# EAGLE library part LM2904 (library led_matrix_master_lib)
IC OPAMP GP 700KHZ 8VSSOP
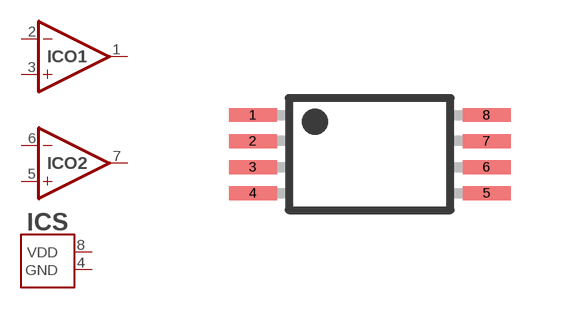
[diagram p4: symbol with the pads of TSSOP8; footprint TSSOP8]

Designator prefix IC; gates O1=OP-AMP O2=OP-AMP S=SUP_PINS

## LM2904 (DIGIKEY#: 296-17931-1-ND; LINK: http://www.chipdip.ru/product/lm2904dgkr-sop8/; MANF: Texas Instruments; MANF#: LM2904DGKR)  [TSSOP8]
1  O1:OUT  out
2  O1:-IN  in
3  O1:+IN  in
4  S:GND
5  O2:+IN  in
6  O2:-IN  in
7  O2:OUT  out
8  S:VDD

## Footprint TSSOP8 (pad centres in mm)
Plastic Small Outline
smd 1.2 x 0.35: 1 -2.925,0.975; 2 -2.925,0.325; 3 -2.925,-0.325; 4 -2.925,-0.975; 5 2.925,-0.975; 6 2.925,-0.325; 7 2.925,0.325; 8 2.925,0.975